# Altium footprint library LTC6409IUDBTRMPBF.PcbLib: 1 footprints
Each footprint in its own frame and in the unit in brackets; x right, y up, seen from the top. Pads: shape width x height; smd on the part's side, far side on the other; paste and mask are expansions set on the pad; w line width, h text height; cw(c..) or ccw(c..) is an arc to the next point about the centre after c.
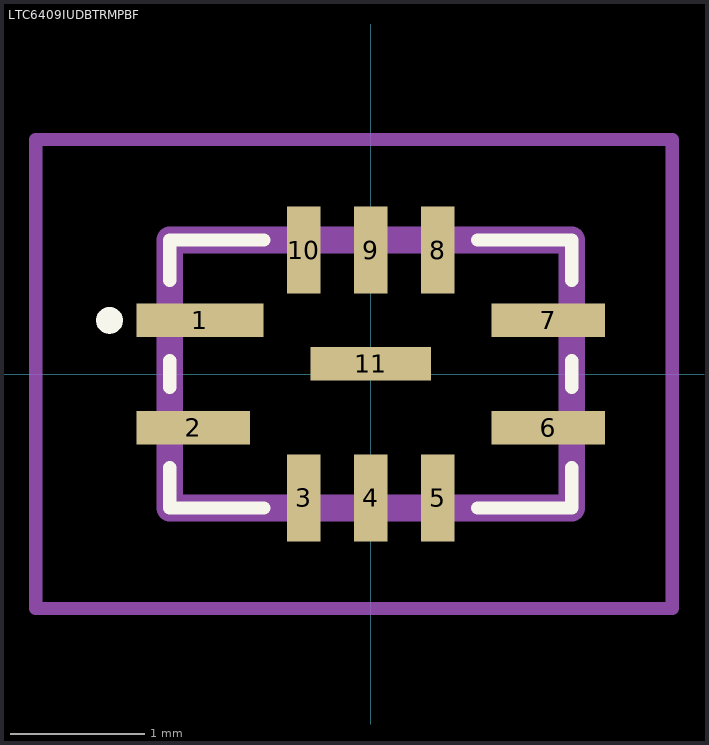
[diagram p0: the footprint, top view; thin cyan lines are the x and y axes]

## LTC6409IUDBTRMPBF [mm]
pads (11):
  rect 0.95x0.25 smd: 1(-1.275,0.4)
  rect 0.85x0.25 smd: 2(-1.325,-0.4) 6(1.325,-0.4) 7(1.325,0.4)
  rect 0.25x0.65 smd: 3(-0.5,-0.925) 4(0,-0.925) 5(0.5,-0.925) 8(0.5,0.925) 9(0,0.925) 10(-0.5,0.925)
  rect 0.9x0.25 smd: 11(0,0.075)
Top Overlay:
  lines w0.1: -1.5,-0.7 -1.5,-1 -0.8,-1 ; -1.5,-0.1 -1.5,0.1 ; -1.5,0.7 -1.5,1 -0.8,1 ; 0.8,-1 1.5,-1 1.5,-0.7 ; 0.8,1 1.5,1 1.5,0.7 ; 1.5,-0.1 1.5,0.1 ; -1.95,0.35 ccw(c-1.95,0.4) -1.95,0.45 ; -1.95,0.35 -1.95,0.35 ; -1.95,0.35 cw(c-1.95,0.4) -1.95,0.45 ; -1.95,0.45 -1.95,0.45
Mechanical 15:
  lines w0.2: -1.5,-1 1.5,-1 1.5,1 -1.5,1 -1.5,-1
Mechanical 20:
  lines w0.1: -2.5,-1.75 2.25,-1.75 2.25,1.75 -2.5,1.75 -2.5,-1.75